# Altium footprint library Hirose Electric.PcbLib: 1 footprints
Each footprint in its own frame and in the unit in brackets; x right, y up, seen from the top. Pads: shape width x height; smd on the part's side, far side on the other; paste and mask are expansions set on the pad; w line width, h text height; cw(c..) or ccw(c..) is an arc to the next point about the centre after c.
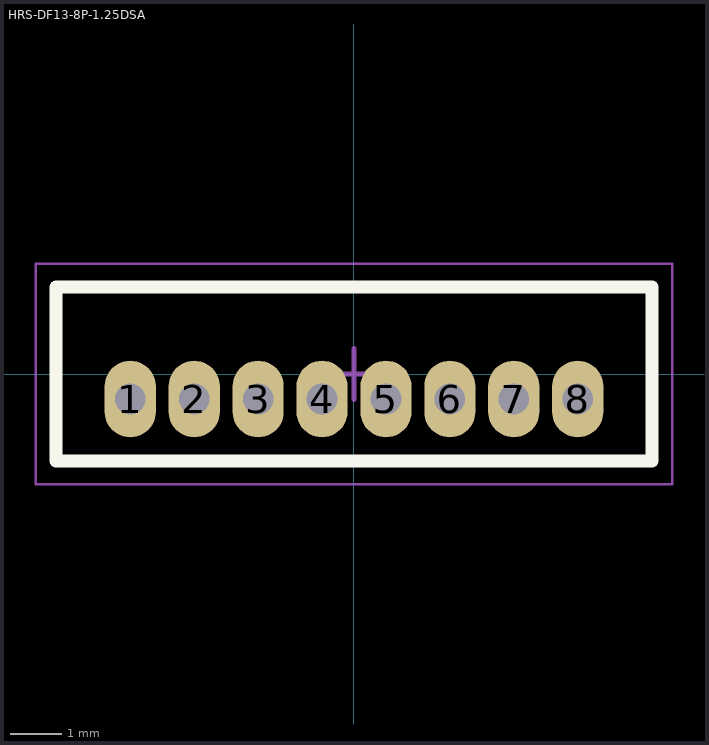
[diagram p0: the footprint, top view; thin cyan lines are the x and y axes]

## HRS-DF13-8P-1.25DSA [mm] "CONN HEADER 8POS 1.25MM GOLD"
height 4.3
pads (8):
  oval 1x1.5 hole 0.6: 1(-4.375,-0.49) 2(-3.125,-0.49) 3(-1.875,-0.49) 4(-0.625,-0.49) 5(0.625,-0.49) 6(1.875,-0.49) 7(3.125,-0.49) 8(4.375,-0.49)
Top Overlay:
  lines w0.254: -5.825,-1.7 5.825,-1.7 5.825,1.7 -5.825,1.7 -5.825,-1.7
Mechanical 13:
  lines w0.1: -5.825,-1.7 5.825,-1.7 ; -5.825,1.7 5.825,1.7
Mechanical 15:
  lines w0.05: -6.222,-2.159 -6.222,2.159 6.222,2.159 6.222,-2.159 -6.222,-2.159
  lines w0.1: -0.5,0 0.5,0 ; 0,-0.5 0,0.5
3D body "DF13-8P-1.25DSA.stp": height 4.3, standoff -2.3, extent -5.825,-1.7 5.825,1.7